# Altium schematic symbol library Switches.SchLib: 1 symbol
Pins are listed as number, name and electrical type; pins without a type are passive.

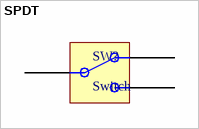
[diagram p0: symbol SPDT]

## SPDT
designator SW?, comment Switch
footprint D2A_1120
pins: 1 COM, 2 NC, 3 NO